# Altium footprint library MOSFETS.PcbLib: 13 footprints
Each footprint in its own frame and in the unit in brackets; x right, y up, seen from the top. Pads: shape width x height; smd on the part's side, far side on the other; paste and mask are expansions set on the pad; w line width, h text height; cw(c..) or ccw(c..) is an arc to the next point about the centre after c.
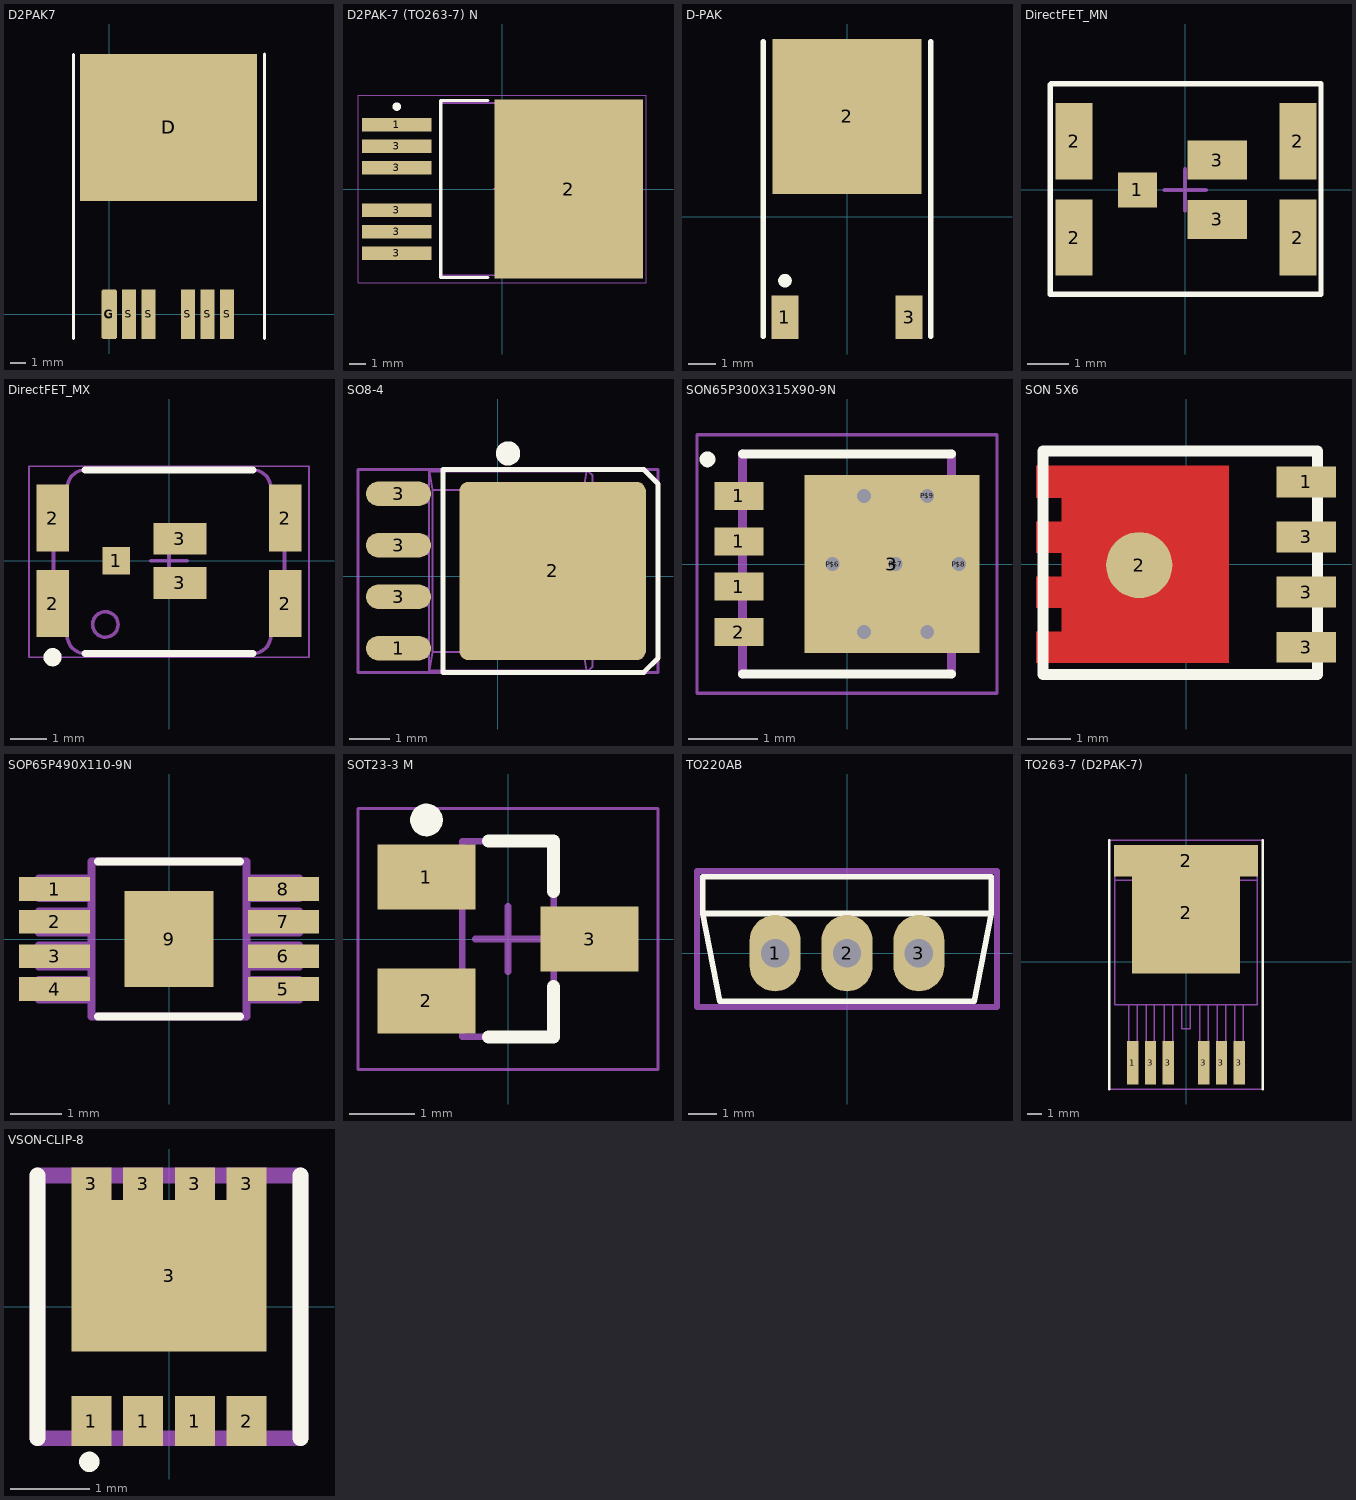
[diagram p0: the footprints below, top view; thin cyan lines are the x and y axes]

## D2PAK7 [mm]
pads (9):
  rect 11.43x9.5 smd: D(3.835,12.065)
  rect 10.66x8.38 smd: D(3.835,12.065)
  rect 0.9x3.2 smd: G(0,0) S(1.27,0) S(2.54,0) S(5.08,0) S(6.35,0) S(7.62,0)
  rect 1.016x3.05 smd: G(0,0)
Top Overlay:
  lines w0.2: -2.311,-1.575 -2.311,16.789 -2.311,-1.575 ; 10.033,-1.549 10.033,16.815 10.033,-1.549
3D body "fila da puuuuuuuuta.stp": height 4.5, standoff -0.03, extent -0.693,-0.737 8.364,15.973
3D body "fila da puuuuuuuuta.stp": height 4.5, standoff -0.03, extent -0.693,-0.737 8.364,15.973

## D2PAK-7 (TO263-7) N [mm]
height 4.83
pads (7):
  rect 4.15x0.8 smd: 1(-6.25,3.81) 3(-6.25,-3.81) 3(-6.25,-2.54) 3(-6.25,-1.27) 3(-6.25,1.27) 3(-6.25,2.54)
  rect 8.8x10.6 smd: 2(3.95,0)
Top Overlay:
  circle w0.25: c-6.25,4.885 r0.125
  lines w0.2: -0.85,-5.25 -3.65,-5.25 -3.65,5.25 -0.85,5.25
Mechanical 13:
  lines w0.1: -3.65,-5.115 6,-5.115 6,5.1 -3.65,5.1 -3.65,-5.115
Mechanical 15:
  lines w0.05: -8.55,-5.55 8.55,-5.55 8.55,5.55 -8.55,5.55 -8.55,-5.55
  lines w0.1: -0.5,0 0.5,0 ; 0,-0.5 0,0.5
Mechanical 29:
  text ".Designator" at 0,0 h1
3D body "TO263-7.STEP": height 4.49, standoff -0.01, extent -7.548,-5.115 7.558,5.1

## D-PAK [mm] "D-PAK/TO-252-AA; 3 Leads (1 Cropped); Body 10.3 (inc. leads) x 6.7 mm (LxW max)"
height 2.38
pads (3):
  rect 1x1.6 smd: 1(-2.285,-3.7) 3(2.285,-3.7)
  rect 5.5x5.7 smd: 2(0,3.7)
Top Overlay:
  circle w0.25: c-2.285,-2.35 r0.125
  lines w0.2: -3.085,-4.4 -3.085,6.45 ; 3.085,-4.4 3.085,6.45
3D body "d-pak.STEP": height 2.34, standoff -0.08, extent -3.277,-4.385 3.263,5.553

## DirectFET_MN [mm]
pads (7):
  rect 0.95x0.85 smd: 1(-1.16,0)
  rect 0.9x1.85 smd: 2(-2.7,-1.16) 2(-2.7,1.18) 2(2.74,-1.16) 2(2.74,1.18)
  rect 1.45x0.95 smd: 3(0.78,-0.72) 3(0.78,0.72)
Top Overlay:
  lines w0.127: -3.28,2.56 -3.28,-2.54 3.3,-2.54 3.3,2.58 -3.26,2.58
Mechanical 15:
  lines w0.05: -3.26,-2.54 3.3,-2.54 3.3,2.58 -3.26,2.58 -3.26,-2.54
  lines w0.1: -0.5,0 0.5,0 ; 0,-0.5 0,0.5
Mechanical 29:
  text ".Designator" at -0.14,-0.14 h1.52
3D body "User Library-DirectFET_MX.STEP": height 0.6, standoff -0.15, extent -3.16,-2.505 3.19,2.545

## DirectFET_MX [mm]
height 0.75
pads (7):
  rect 0.75x0.75 smd: 1(-1.45,0)
  rect 0.9x1.85 smd: 2(-3.2,-1.175) 2(-3.2,1.175) 2(3.2,-1.175) 2(3.2,1.175)
  rect 1.45x0.87 smd: 3(0.3,-0.61) 3(0.3,0.61)
Top Overlay:
  circle w0.25: c-3.2,-2.65 r0.125
  lines w0.2: -2.3,-2.55 2.3,-2.55 ; -2.3,2.5 2.3,2.5
Mechanical 13:
  circle w0.1: c-1.75,-1.75 r0.35
  lines w0.1: -3.175,-2.025 -2.8,-2.025 -2.8,-2.05 ccw(c-2.3,-2.05) -2.3,-2.55 2.3,-2.55 ccw(c2.3,-2.05) 2.8,-2.05 2.8,-2.025 3.175,-2.025 3.175,1.975 2.8,1.975 2.8,2 ccw(c2.3,2) 2.3,2.5 -2.3,2.5 ccw(c-2.3,2) -2.8,2 -2.8,1.975 -3.175,1.975 -3.175,-2.025
Mechanical 15:
  lines w0.05: -3.85,-2.65 3.85,-2.65 3.85,2.6 -3.85,2.6 -3.85,-2.65
  lines w0.1: -0.5,0 0.5,0 ; 0,-0.5 0,0.5
3D body "DirectFET_MX.STEP": height 0.73, standoff -0.02, extent -3.175,-2.55 3.175,2.5

## SO8-4 [mm]
pads (5):
  oval 1.6x0.6 smd: 1(-2.446,-1.778) 3(-2.446,-0.508) 3(-2.446,0.762) 3(-2.446,2.032)
  rrect10% 4.6x4.4 smd paste-0.8: 2(1.354,0.127)
Top Overlay:
  circle w0.3: c0.254,3.027 r0.15
  lines w0.127: -1.346,-2.373 -1.346,2.627 3.604,2.627 3.954,2.277 3.954,-2.023 3.604,-2.373 -1.346,-2.373
Mechanical 13:
  circle w0.05: c0.254,1.627 r0.338
  lines w0.05: -2.377,-1.988 -2.377,-1.568 ; -2.377,-0.718 -2.377,-0.298 ; -2.377,0.552 -2.377,0.972 ; -2.377,1.822 -2.377,2.242 ; -2.289,-1.988 -2.289,-1.568 ; -2.289,-0.718 -2.289,-0.298 ; -2.289,0.552 -2.289,0.972 ; -2.289,1.822 -2.289,2.242 ; -2.252,-1.988 -2.252,-1.568 ; -2.252,-0.718 -2.252,-0.298 ; -2.252,0.552 -2.252,0.972 ; -2.252,1.822 -2.252,2.242 ; -1.963,-1.988 -1.963,-1.568 ; -1.963,-0.718 -1.963,-0.298 ; -1.963,0.552 -1.963,0.972 ; -1.963,1.822 -1.963,2.242 ; -1.696,-1.988 -2.746,-1.988 -2.746,-1.568 -1.696,-1.568 ; -1.696,-0.718 -2.746,-0.718 -2.746,-0.298 -1.696,-0.298 ; -1.696,0.552 -2.746,0.552 -2.746,0.972 -1.696,0.972 ; -1.696,1.822 -2.746,1.822 -2.746,2.242 -1.696,2.242 ; -1.683,-2.323 -1.604,-1.876 ; -1.683,2.577 -1.604,2.13 ; 2.191,-2.323 2.112,-1.876 ; 2.191,2.577 2.112,2.13 ; 2.339,-1.273 2.339,-2.231 2.247,-2.323 -1.696,-2.323 -1.696,2.577 2.247,2.577 2.339,2.485 2.339,1.527 ; 2.339,-0.473 2.339,0.727 ; -1.604,-1.876 -1.604,2.13 ; -1.604,-1.876 2.112,-1.876 ; -1.604,2.13 2.112,2.13 ; 2.112,-1.876 2.112,2.13 ; 2.282,-1.273 2.554,-1.273 2.554,-1.973 2.804,-1.973 3.254,-1.523 3.254,1.777 2.804,2.227 2.554,2.227 2.554,1.527 2.282,1.527 2.282,0.727 2.354,0.727 2.354,-0.473 2.282,-0.473 2.282,-1.273
Mechanical 15:
  lines w0.076: -3.446,-2.373 -3.446,2.627 3.954,2.627 3.954,-2.373 -3.446,-2.373
3D body "LFPAK.STEP": height 1.1, standoff 0, extent -2.746,-2.323 3.254,2.577

## SON65P300X315X90-9N [mm]
pads (12):
  rect 0.7x0.4 smd: 1(-1.55,-0.325) 1(-1.55,0.325) 1(-1.55,0.975) 2(-1.55,-0.975)
  rect 2.51x2.55 smd: 3(0.645,0)
  round 0.25 hole 0.2: P$6(-0.207,0) P$7(0.698,0) P$8(1.603,0) P$9(1.15,0.975) P$10(0.245,0.975) P$11(0.245,-0.975) P$12(1.15,-0.975)
Top Overlay:
  circle w0.127: c-2,1.5 r0.05
  lines w0.127: -1.5,-1.575 1.5,-1.575 ; -1.5,1.575 1.5,1.575
Top Paste:
  region: -1.919,0.475 -1.25,0.475 -1.25,0.182 -1.919,0.182
  region: -1.908,-0.175 -1.25,-0.175 -1.25,-0.49 -1.908,-0.49
  region: -1.922,1.125 -1.25,1.125 -1.25,0.857 -1.922,0.857
  region: -1.912,-0.825 -1.25,-0.825 -1.25,-1.163 -1.912,-1.163
  region: 1.297,0.475 1.85,0.475 1.85,0.182 1.297,0.182
  region: 1.287,-0.175 1.85,-0.175 1.85,-0.489 1.287,-0.489
  region: 1.295,1.125 1.85,1.125 1.85,0.855 1.295,0.855
  region: 1.293,-0.825 1.85,-0.825 1.85,-1.164 1.293,-1.164
  region: -0.579,1.225 0.145,1.225 0.145,0.104 -0.579,0.104
  region: -0.58,-0.101 0.145,-0.101 0.145,-1.268 -0.58,-1.268
  region: 0.358,1.225 1.05,1.225 1.05,0.104 0.358,0.104
  region: 0.356,-0.101 1.05,-0.101 1.05,-1.267 0.356,-1.267
Top Solder:
  region: -1.912,0.475 -1.25,0.475 -1.25,0.181 -1.912,0.181
  region: -1.914,-0.175 -1.25,-0.175 -1.25,-0.492 -1.914,-0.492
  region: -1.914,1.125 -1.25,1.125 -1.25,0.853 -1.914,0.853
  region: -1.911,-0.825 -1.25,-0.825 -1.25,-1.162 -1.911,-1.162
  region: -0.58,1.225 1.215,1.225 1.215,-1.268 -0.58,-1.268
  region: 1.262,1.125 1.85,1.125 1.85,0.857 1.262,0.857
  region: 1.255,0.475 1.85,0.475 1.85,0.181 1.255,0.181
  region: 1.254,-0.175 1.85,-0.175 1.85,-0.49 1.254,-0.49
  region: 1.254,-0.825 1.85,-0.825 1.85,-1.161 1.254,-1.161
Mechanical 13:
  lines w0.05: -2.15,-1.85 2.15,-1.85 2.15,1.85 -2.15,1.85 -2.15,-1.85
Mechanical 15:
  lines w0.127: -1.5,-1.575 -1.5,1.575 -1.5,-1.575 ; 1.5,-1.575 1.5,1.575 1.5,-1.575
3D body "DNH0008A.stp": height 0.9, standoff 0, extent -1.65,-1.655 1.65,1.655

## SON 5X6 [mm]
pads (5):
  rect 1.372x0.71 smd: 1(2.77,1.9) 3(2.77,-1.91) 3(2.77,-0.64) 3(2.77,0.63)
  round 1.524 smd: 2(-1.08,-0.02)
Top Layer:
  region: -3.46,-2.27 0.98,-2.27 0.98,2.27 -3.46,2.27 -3.46,1.54 -2.87,1.54 -2.87,0.98 -3.46,0.98 -3.46,0.27 -2.87,0.27 -2.87,-0.29 -3.46,-0.29 -3.46,-1 -2.87,-1 -2.87,-1.56 -3.46,-1.56
Top Overlay:
  lines w0.254: -3.3,-2.54 -3.3,2.61 3.03,2.61 3.03,-2.54 -3.3,-2.54
3D body "User Library-SON5x6.STEP": height 1, standoff 0, extent -3.13,-2.44 2.87,2.46

## SOP65P490X110-9N [mil]
pads (9):
  rect 54x18 smd: 1(-87,38) 2(-87,13) 3(-87,-13) 4(-87,-38) 5(87,-38) 6(87,-13) 7(87,13) 8(87,38)
  rect 68x73 smd: 9(0,0)
Top Overlay:
  lines w6: -54,-59 54,-59 ; -54,59 -12,59 12,59 54,59
Mechanical 13:
  lines w6: -99,-46 -99,-31 -59,-31 -59,-46 -99,-46 ; -99,-21 -99,-5 -59,-5 -59,-21 -99,-21 ; -99,5 -99,21 -59,21 -59,5 -99,5 ; -99,31 -99,46 -59,46 -59,31 -99,31 ; -59,-59 -59,59 -12,59 12,59 59,59 59,-59 -59,-59 ; 59,-46 59,-31 99,-31 99,-46 59,-46 ; 59,-21 59,-5 99,-5 99,-21 59,-21 ; 59,5 59,21 99,21 99,5 59,5 ; 59,31 59,46 99,46 99,31 59,31
3D body "DGN0008A.stp": height 33.19, standoff -4.82, extent -96.5,-59 96.5,59

## SOT23-3 M [mm] "SOT23, 3-Leads, Body 2,90x2,30mm, Pitch 0,95mm, IPC Low Density"
height 1.1
pads (3):
  rect 1.5x1 smd: 1(-1.25,0.95) 2(-1.25,-0.95) 3(1.25,0)
Top Overlay:
  circle w0.25: c-1.25,1.825 r0.125
  lines w0.2: -0.3,-1.5 0.7,-1.5 0.7,-0.725 ; -0.3,1.5 0.7,1.5 0.7,0.725
Mechanical 13:
  lines w0.1: -0.7,-1.5 0.7,-1.5 0.7,1.5 -0.7,1.5 -0.7,-1.5
Mechanical 15:
  lines w0.05: -2.3,-2 2.3,-2 2.3,2 -2.3,2 -2.3,-2
  lines w0.1: -0.5,0 0.5,0 ; 0,-0.5 0,0.5
Mechanical 29:
  text ".Designator" at 0,0 h2
3D body "SOT95P230X110-3M.step": height 1.1, standoff 0, extent -1.3,-1.5 1.3,1.5

## TO220AB [mm]
pads (3):
  oval 1.8x2.7 hole 1: 1(-2.54,0) 2(0,0) 3(2.54,0)
Top Overlay:
  lines w0.2: -5.1,1.4 -4.5,-1.7 4.5,-1.7 5.1,1.4 ; -5.1,1.4 5.1,1.4 ; -5.1,1.4 -5.1,2.7 5.1,2.7 5.1,1.4
Mechanical 15:
  lines w0.1: -0.2,0.5 0.2,0.5 ; 0,0.3 0,0.7
  lines w0.2: -5.3,-1.9 -5.3,2.9 5.3,2.9 5.3,-1.9 -5.3,-1.9
Mechanical 29:
  text "1" at -3.9,-1.4 h0.5
  text ".Designator" at -5.1,3.3 h0.5
3D body "TO220AB.STEP": height 19.34, standoff -1.98, extent -5.15,-1.778 5.15,2.732

## TO263-7 (D2PAK-7) [mm] "TO263-7 (D2PAK-7)"
height 4.57
pads (8):
  rect 0.8x3.1 smd: 1(-3.81,-7.229) 3(-2.54,-7.229) 3(-1.27,-7.229) 3(1.27,-7.229) 3(2.54,-7.229) 3(3.81,-7.229)
  rect 7.7x8.7 smd: 2(0,3.529)
  rect 10.3x2.25 smd: 2(0,7.229)
Top Overlay:
  lines w0.2: -5.5,-9.1 -5.5,8.7 ; 5.5,-9.1 5.5,8.7
Mechanical 13:
  lines w0.1: -4.1,-3.071 -4.1,-7.771 -3.5,-7.771 -3.5,-3.071 ; -2.86,-3.071 -2.86,-7.771 -2.26,-7.771 -2.26,-3.071 ; -1.55,-3.071 -1.55,-7.771 -0.95,-7.771 -0.95,-3.071 ; -0.3,-3.071 -0.3,-4.8 0.3,-4.8 0.3,-3.071 ; 0.99,-3.071 0.99,-7.771 1.59,-7.771 1.59,-3.071 ; 2.24,-3.071 2.24,-7.771 2.84,-7.771 2.84,-3.071 ; 3.49,-3.071 3.49,-7.771 4.09,-7.771 4.09,-3.071 ; -5.1,5.829 5.1,5.829 ; -5.1,5.829 -5.1,-3.071 5.1,-3.071 5.1,5.829 ; -5.1,5.829 -5.1,6.629 -3.4,7.329 3.4,7.329 5.1,6.629 5.1,5.829
Mechanical 15:
  lines w0.1: -0.5,0 0.5,0 ; 0,-0.5 0,0.5 ; -5.5,-9.1 5.5,-9.1 5.5,8.7 -5.5,8.7 -5.5,-9.1
Mechanical 29:
  text ".Designator" at 0,0 h1
3D body "D2PAK-7.STEP": height 4.5, standoff 0, extent -5.107,-7.778 5.107,7.329

## VSON-CLIP-8 [mm]
pads (9):
  rect 0.5x0.63 smd mask+0.05: 1(-0.975,-1.435) 1(-0.325,-1.435) 1(0.325,-1.435) 2(0.975,-1.435)
  rect 0.5x0.41 smd: 3(-0.975,1.545) 3(-0.325,1.545) 3(0.325,1.545) 3(0.975,1.545)
  rect 2.45x1.9 smd: 3(0,0.39)
Top Overlay:
  circle w0.2: c-1.001,-1.946 r0.027
  lines w0.2: -1.65,-1.65 -1.65,1.65 ; 1.65,-1.65 1.65,1.65
Mechanical 13:
  lines w0.2: -1.65,-1.65 1.65,-1.65 1.65,1.65 -1.65,1.65 -1.65,-1.65